# Altium schematic symbol library Sch_H_Bridge.SchLib: 11 symbols
Pins are listed as number, name and electrical type; pins without a type are passive.

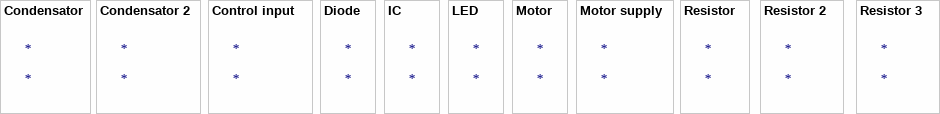
[diagram p0: symbols Condensator to Resistor 3]

## Condensator
designator *

## Condensator 2
designator *

## Control input
designator *

## Diode
designator *

## IC
designator *

## LED
designator *

## Motor
designator *

## Motor supply
designator *

## Resistor
designator *

## Resistor 2
designator *

## Resistor 3
designator *